# Altium schematic symbol library BQ29700.SchLib: 1 symbol
Pins are listed as number, name and electrical type; pins without a type are passive.

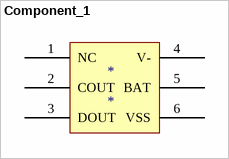
[diagram p0: symbol Component_1]

## Component_1
designator *
footprint DSE
pins: 1 NC, 2 COUT, 3 DOUT, 4 V-, 5 BAT, 6 VSS